# Altium schematic symbol library PIEZO.SchLib: 1 symbol
Pins are listed as number, name and electrical type; pins without a type are passive.

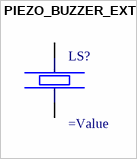
[diagram p0: symbol PIEZO_BUZZER_EXT]

## PIEZO_BUZZER_EXT
designator LS?
Piezoelectric Buzzer; Drawn By: Juan I Carrano
footprint TWO_WIRE_HOLE
pins: 1, 2